# Altium footprint library PcbLib1.PcbLib: 6 footprints
Each footprint in its own frame and in the unit in brackets; x right, y up, seen from the top. Pads: shape width x height; smd on the part's side, far side on the other; paste and mask are expansions set on the pad; w line width, h text height; cw(c..) or ccw(c..) is an arc to the next point about the centre after c.
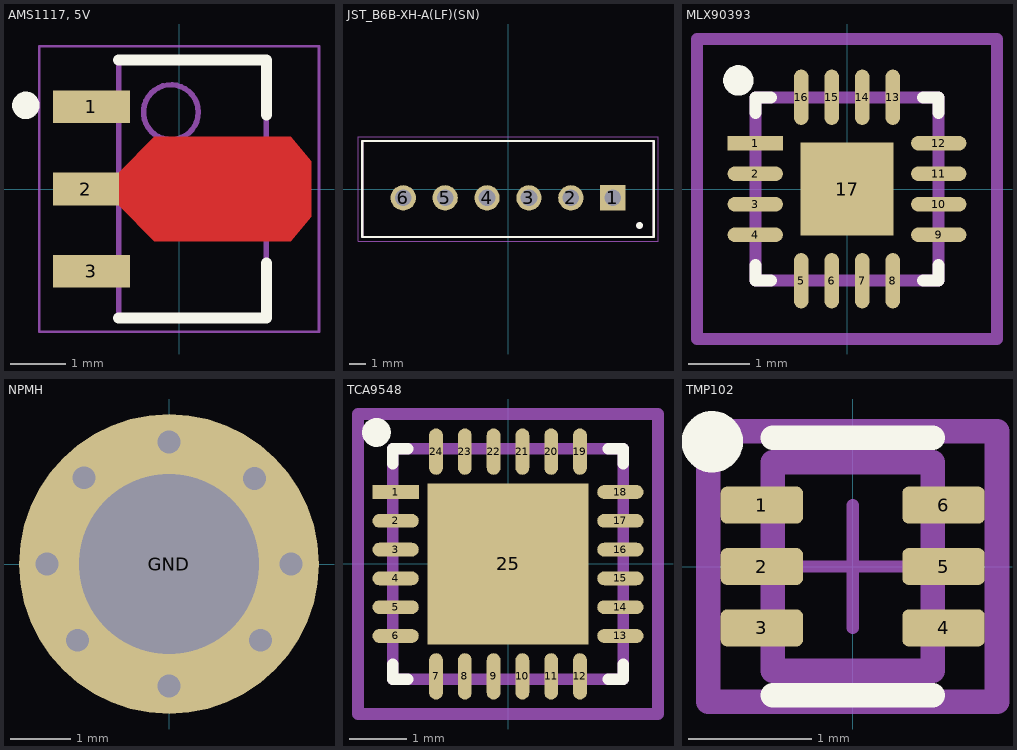
[diagram p0: the footprints below, top view; thin cyan lines are the x and y axes]

## AMS1117, 5V [mm] "SOT89"
pads (3):
  rect 1.4x0.6 smd: 1(-1.6,1.5) 3(-1.6,-1.5)
  rect 1.2x0.6 smd: 2(-1.7,0)
Top Layer:
  region: -1.1,0.3 -0.45,0.95 2.032,0.95 2.413,0.508 2.413,-0.508 2.032,-0.95 -0.45,-0.95 -1.1,-0.3
Top Overlay:
  circle w0.25: c-2.794,1.524 r0.125
  lines w0.2: -1.105,-2.35 1.595,-2.35 1.595,-1.35 ; -1.105,2.35 1.595,2.35 1.595,1.35
Top Assembly:
  circle w0.1: c-0.15,1.4 r0.5
  lines w0.1: -1.1,-2.35 1.59,-2.35 1.59,2.35 -1.1,2.35 -1.1,-2.35
Top Courtyard:
  lines w0.05: -2.55,-2.6 2.55,-2.6 2.55,2.6 -2.55,2.6 -2.55,-2.6
  lines w0.1: -0.255,0 0.745,0 ; 0.245,-0.5 0.245,0.5
3D body "SOT89-150P350X160-3N.step": height 1.6, standoff 0, extent -2.246,-2.349 1.954,2.349

## JST_B6B-XH-A(LF)(SN) [mm]
height 7
pads (6):
  rect 1.508x1.508 / inner round 1.508 / far side rect 1.508x1.508 hole 1: 1(6.25,-0.525)
  round 1.508 hole 1: 2(3.75,-0.525) 3(1.25,-0.525) 4(-1.25,-0.525) 5(-3.75,-0.525) 6(-6.25,-0.525)
Top Overlay:
  circle w0.2: c7.849,-2.176 r0.1
  lines w0.127: -8.7,-2.875 -8.7,2.875 8.7,2.875 8.7,-2.875 -8.7,-2.875
Top 3D Body:
  circle w0.2: c7.849,-2.176 r0.1
  lines w0.127: -8.7,-2.875 -8.7,2.875 8.7,2.875 8.7,-2.875 -8.7,-2.875
Top Courtyard:
  lines w0.05: -8.95,-3.125 -8.95,3.125 8.95,3.125 8.95,-3.125 -8.95,-3.125
3D body "step_temp.STEP": height 7, standoff -3.4, extent -8.7,-2.875 8.7,2.875

## MLX90393 [mm] "QFN"
pads (17):
  rect 0.906x0.239 smd paste+0 mask+0: 1(-1.503,0.75)
  rrect100% 0.906x0.239 smd paste+0 mask+0: 2(-1.503,0.25) 3(-1.503,-0.25) 4(-1.503,-0.75) 9(1.503,-0.75) 10(1.503,-0.25) 11(1.503,0.25) 12(1.503,0.75)
  rrect100% 0.239x0.906 smd paste+0 mask+0: 5(-0.75,-1.503) 6(-0.25,-1.503) 7(0.25,-1.503) 8(0.75,-1.503) 13(0.75,1.503) 14(0.25,1.503) 15(-0.25,1.503) 16(-0.75,1.503)
  rect 1.524x1.524 smd paste-1000 mask+0: 17(0,0)
Top Overlay:
  circle w0.25: c-1.778,1.778 r0.125
  lines w0.2: -1.5,-1.25 -1.5,-1.5 -1.25,-1.5 ; -1.5,1.25 -1.5,1.5 -1.25,1.5 ; 1.25,-1.5 1.5,-1.5 1.5,-1.25 ; 1.25,1.5 1.5,1.5 1.5,1.25
Top Assembly:
  lines w0.2: -2.456,-2.456 2.456,-2.456 2.456,2.456 -2.456,2.456 -2.456,-2.456
Top 3D Body:
  lines w0.2: -1.5,-1.5 1.5,-1.5 1.5,1.5 -1.5,1.5 -1.5,-1.5
Top Courtyard:
  lines w0.2: -2.456,-2.456 2.456,-2.456 2.456,2.456 -2.456,2.456 -2.456,-2.456
Top Component Center:
  lines w0.1: -0.5,0 0.5,0 ; 0,-0.5 0,0.5
3D body "IC_Melexis_MLX90393ELW-ABA-011-RE_eec.STEP": height 0.25, standoff 0, extent -2.456,-2.456 2.456,2.456

## NPMH [mm] "3.5mm"
pads (1):
  round 5 hole 3: GND(0,0)
via 1.422,1.422 diameter 0.508 hole 0.381
via -1.524,-1.27 diameter 0.508 hole 0.381
via 1.524,-1.27 diameter 0.508 hole 0.381
via 2.032,0 diameter 0.508 hole 0.381
via -2.032,0 diameter 0.508 hole 0.381
via -1.418,1.437 diameter 0.508 hole 0.381
via 0,-2.032 diameter 0.508 hole 0.381
via 0,2.032 diameter 0.508 hole 0.381

## TCA9548 [mm] "QFN"
pads (25):
  rect 0.806x0.239 smd paste+0 mask+0: 1(-1.953,1.25)
  rrect100% 0.806x0.239 smd paste+0 mask+0: 2(-1.953,0.75) 3(-1.953,0.25) 4(-1.953,-0.25) 5(-1.953,-0.75) 6(-1.953,-1.25) 13(1.953,-1.25) 14(1.953,-0.75) 15(1.953,-0.25) 16(1.953,0.25) 17(1.953,0.75) 18(1.953,1.25)
  rrect100% 0.239x0.806 smd paste+0 mask+0: 7(-1.25,-1.953) 8(-0.75,-1.953) 9(-0.25,-1.953) 10(0.25,-1.953) 11(0.75,-1.953) 12(1.25,-1.953) 19(1.25,1.953) 20(0.75,1.953) 21(0.25,1.953) 22(-0.25,1.953) 23(-0.75,1.953) 24(-1.25,1.953)
  rect 2.8x2.8 smd paste-1000 mask+0: 25(0,0)
Top Overlay:
  circle w0.25: c-2.286,2.286 r0.125
  lines w0.2: -2,-1.745 -2,-2 -1.745,-2 ; -2,1.745 -2,2 -1.745,2 ; 1.745,-2 2,-2 2,-1.745 ; 1.745,2 2,2 2,1.745
Top Paste:
  rectangle: -0.885,-0.885 0.885,0.885
Top Assembly:
  lines w0.2: -2.606,-2.606 2.606,-2.606 2.606,2.606 -2.606,2.606 -2.606,-2.606
  text ".Designator" at 0,0.188 h1
Top 3D Body:
  lines w0.2: -2,-2 2,-2 2,2 -2,2 -2,-2
Top Courtyard:
  lines w0.2: -2.606,-2.606 2.606,-2.606 2.606,2.606 -2.606,2.606 -2.606,-2.606
Top Component Center:
  lines w0.1: -0.5,0 0.5,0 ; 0,-0.5 0,0.5
3D body "IC_Texas_Instruments_TRS3122ERGER_eec.STEP": height 0.25, standoff 0, extent -2.606,-2.606 2.606,2.606

## TMP102 [mm] "SOT563"
pads (6):
  rrect33% 0.67x0.3 smd paste+0 mask+0: 1(-0.74,0.5) 2(-0.74,0) 3(-0.74,-0.5) 4(0.74,-0.5) 5(0.74,0) 6(0.74,0.5)
Top Overlay:
  circle w0.25: c-1.143,1.016 r0.125
  lines w0.2: -0.65,-1.05 0.65,-1.05 ; -0.65,1.05 0.65,1.05
Top Assembly:
  lines w0.2: -1.175,-1.1 -1.175,1.1 1.175,1.1 1.175,-1.1 -1.175,-1.1
Top 3D Body:
  lines w0.2: -0.65,-0.85 -0.65,0.85 0.65,0.85 0.65,-0.85 -0.65,-0.85
Top Courtyard:
  lines w0.2: -1.175,-1.1 -1.175,1.1 1.175,1.1 1.175,-1.1 -1.175,-1.1
Top Component Center:
  lines w0.1: -0.5,0 0.5,0 ; 0,-0.5 0,0.5
3D body "Diode_Texas_Instruments_TPD2E1B06DRLR_eec.STEP": height 0.25, standoff 0, extent -1.175,-1.1 1.175,1.1